# EAGLE library part LPPB052CFFN-RC (library aqm-parts)
10 Position Total Dual Row 1.27 mm Pitch Straight Female Header
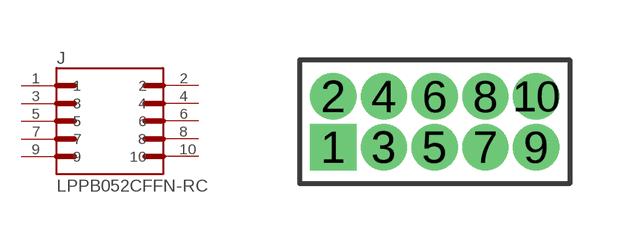
[diagram p0: symbol with the pads of SULLINS_LPPB052CFFN-RC; footprint SULLINS_LPPB052CFFN-RC]

Designator prefix J

## LPPB052CFFN-RC (DESCRIPTION: 10 Position Header Connector Through Hole; DIGI-KEY_PART_NUMBER: S9009E-05-ND; DIGI-KEY_PURCHASE_URL: https://www.digikey.com/product-detail/en/sullins-connector-solutions/LPPB052CFFN-RC/S9009E-05-ND/1786376?utm_source=snapeda&utm_medium=aggregator&utm_campaign=symbol; MF: Sullins; MP: LPPB052CFFN-RC; PACKAGE: None)  [SULLINS_LPPB052CFFN-RC]
1  1  pas
2  2  pas
3  3  pas
4  4  pas
5  5  pas
6  6  pas
7  7  pas
8  8  pas
9  9  pas
10  10  pas

## Footprint SULLINS_LPPB052CFFN-RC (pad centres in mm)
drill 0.65 pad 1.016 square: 1 -2.54,-0.635
drill 0.65 pad 1.016: 2 -2.54,0.635; 3 -1.27,-0.635; 4 -1.27,0.635; 5 0,-0.635; 6 0,0.635; 7 1.27,-0.635; 8 1.27,0.635; 9 2.54,-0.635; 10 2.54,0.635